# EAGLE library part MURATA-IRQ-24/4.2-T110PVF-C (library ClintonLib)
100W, 24Vout, 4.2Aout, 57.6V-160Vin Isolated DC-DC Converter OCP, OTP, OVP, SCP, UVLO, Hiccup Height above board (including baseplate) = 0.5" [12.7mm]. Baseplate thickness = 0.12" [3mm]. Pin length = 0.135" [3.43mm] Note certain dimensional differences between recommended PCB footprint and mechanical drawing Recommended input fuse = 10A? Maximum output capacitance = 560 uF Datasheet <https://media.digikey.com/pdf/Data%20Sheets/Murata%20PDFs/IRQ_Series_Ds.pdf> Digikey <https://www.digikey.com/product-detail/en/murata-power-solutions-inc/IRQ-24-4.2-T110PVF-C/811-3286-ND/6817691>
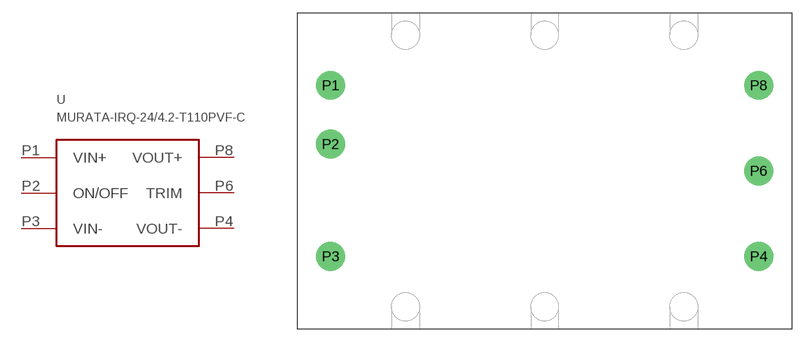
[diagram p18: symbol with the pads of MURATA-IRQ-24/4.2-T110PVF-C; footprint MURATA-IRQ-24/4.2-T110PVF-C]

Designator prefix -

## MURATA-IRQ-24/4.2-T110PVF-C  [MURATA-IRQ-24/4.2-T110PVF-C]
P1  VIN+
P2  ON/OFF
P3  VIN-
P4  VOUT-
P6  TRIM
P8  VOUT+

## Footprint MURATA-IRQ-24/4.2-T110PVF-C (pad centres in mm)
Baseplate mechanical dimensions state 1.45" (36.8mm) wide Recommended drawing is 1.48" (37.6mm) wide Bolts for baseplate are M3 (these may be irrelevant to PCB design unless they are planned to be used) Height above board (including baseplate) = 0.5" [12.7mm]. Baseplate thickness = 0.12" [3mm]. Pin length = 0.135" [3.43mm]
drill 2.413: P1 3.937,-8.636; P2 3.937,-15.621; P3 3.937,-28.956; P4 54.737,-28.956; P6 54.737,-18.796; P8 54.737,-8.636